# Altium footprint library atmega_pcblib.PcbLib: 24 footprints (part 2 of 2)
Each footprint in its own frame and in the unit in brackets; x right, y up, seen from the top. Pads: shape width x height; smd on the part's side, far side on the other; paste and mask are expansions set on the pad; w line width, h text height; cw(c..) or ccw(c..) is an arc to the next point about the centre after c.
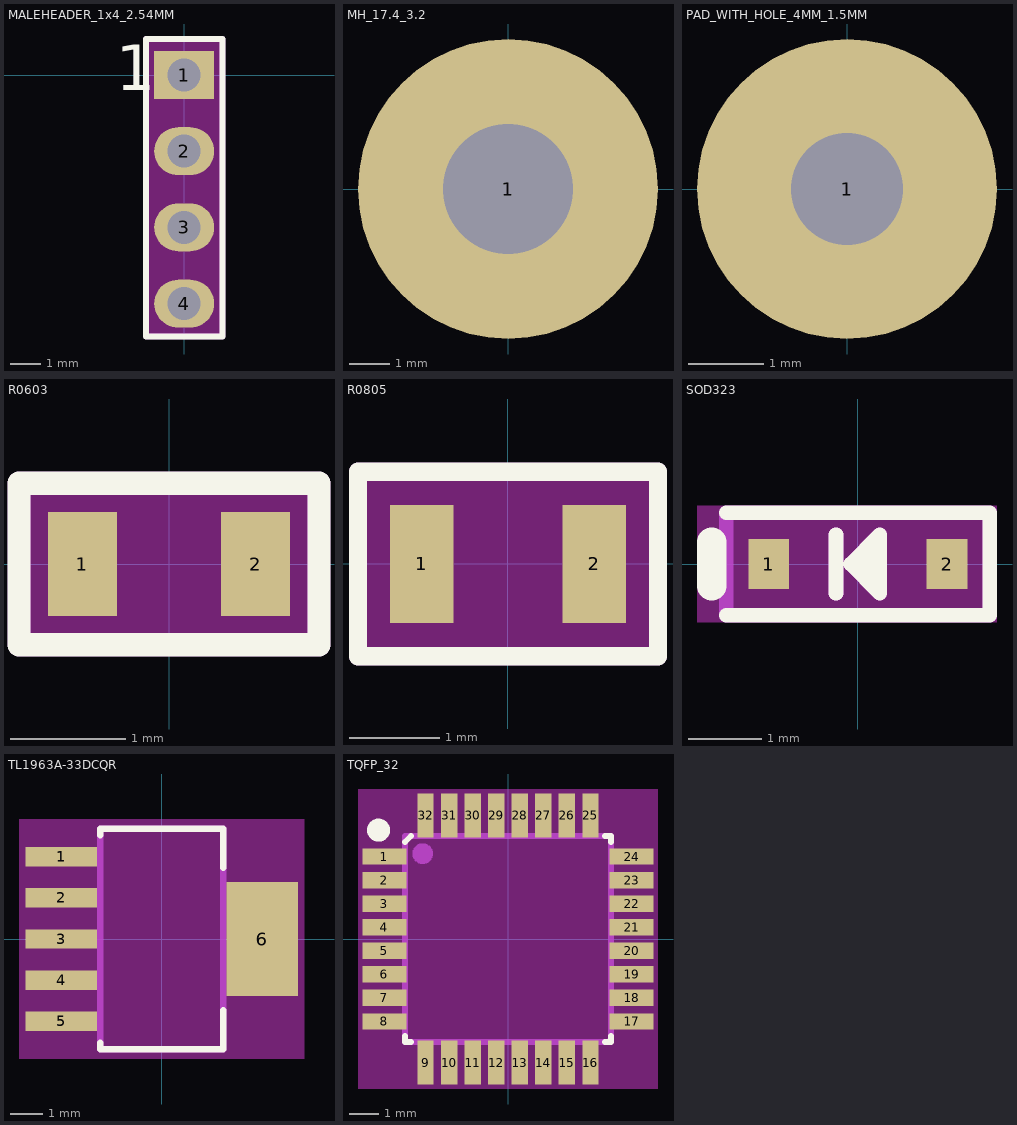
[diagram p1: the footprints below, top view; thin cyan lines are the x and y axes]

## MALEHEADER_1x4_2.54MM [mm]
pads (4):
  rect 2x1.6 hole 1.1: 1(0,0)
  oval 2x1.6 hole 1.1: 2(0,-2.54) 3(0,-5.08) 4(0,-7.62)
Top Overlay:
  lines w0.2: -1.27,-8.724 -1.27,1.2 1.27,1.2 1.27,-8.724 0.635,-8.724 -0.635,-8.724 -1.27,-8.724
  text "1" at -2.286,-0.508 h1.52
Keep-Out Layer:
  rectangle: -1.27,-8.8 1.27,1.2
Mechanical 24:
  circle w0.5: c0,0 r0.359
  lines w0.2: -1.27,-8.724 1.27,-8.724 ; -1.27,-8.7 -1.27,1.2 1.27,1.2 1.27,-8.7
  text ".Designator" at 0.738,-5.746 h1.52
3D body "HDR_1x4_White.stp": height 8.19, standoff -3.31, extent -1.205,-8.66 1.205,1.1

## MH_17.4_3.2 [mm]
pads (1):
  round 7.4 hole 3.2: 1(0,0)

## PAD_WITH_HOLE_4MM_1.5MM [mm]
pads (1):
  round 4 hole 1.5: 1(0,0)

## R0603 [mm]
pads (2):
  rect 0.6x0.9 smd: 1(-0.75,0) 2(0.75,0)
Top Overlay:
  lines w0.2: -1.3,-0.7 -1.3,0.7 1.3,0.7 1.3,-0.7 -1.3,-0.7
Keep-Out Layer:
  rectangle: -1.3,-0.7 1.3,0.7
Mechanical 24:
  lines w0.2: -1.3,-0.7 -1.3,0.7 1.3,0.7 1.3,-0.7 -1.3,-0.7
  text ".Designator" at -0.76,0.973 h1
3D body "R0603.step": height 0.81, standoff 0.01, extent -0.787,-0.42 0.813,0.42

## R0805 [mm]
pads (2):
  rect 0.7x1.3 smd: 1(-0.95,0) 2(0.95,0)
Top Overlay:
  lines w0.2: -1.651,-1.016 1.651,-1.016 1.651,1.016 -1.651,1.016 -1.651,-1.016
Keep-Out Layer:
  rectangle: -1.651,-1.016 1.651,1.016
Mechanical 24:
  lines w0.2: -1.651,-1.016 1.651,-1.016 1.651,1.016 -1.651,1.016 -1.651,-1.016
  text ".Designator" at -1.092,-0.5 h1.02
3D body "User Library-Chip Resistor2.step": height 0.7, standoff 0, extent -1,-0.6 1,0.6

## SOD323 [mil]
pads (2):
  rect 22x27 smd: 1(-48,0) 2(48,0)
Top Overlay:
  lines w7.87: -70.87,-27.56 70.87,-27.56 70.87,27.56 -70.87,27.56 ; -11.81,-15.75 -11.81,15.75 ; 3.94,7.87 11.81,0 ; 11.81,0 3.94,-7.87 3.94,0 11.81,0 ; 11.81,0 11.81,15.75 ; 11.81,15.75 -3.94,0 11.81,-15.75 11.81,15.75
  lines w15.75: -78.74,-11.81 -78.74,11.81
Keep-Out Layer:
  rectangle: -86.61,-31.5 74.8,31.5
Mechanical 24:
  lines w7.87: -11.81,-15.75 -11.81,15.75 ; -70.87,-27.56 70.87,-27.56 70.87,27.56 -70.87,27.56 -70.87,-27.56 ; -3.94,0 11.81,-15.75 11.81,15.75 -3.94,0
  text ".Designator" at -43.31,-65.62 h27.56
3D body "User Library-SOD323.STEP": height 35.43, standoff -3.54, extent -49.21,-24.61 49.21,24.61

## TL1963A-33DCQR [mm]
pads (6):
  rect 2.2x0.6 smd: 1(-3.1,2.54) 2(-3.1,1.27) 3(-3.1,0) 4(-3.1,-1.27) 5(-3.1,-2.54)
  rect 2.2x3.5 smd: 6(3.1,0)
Top Overlay:
  lines w0.2: -1.9,-3.2 -1.9,-3.4 1.9,-3.4 1.9,-2.2 ; -1.9,3.2 -1.9,3.4 1.9,3.4 1.9,2.2
Keep-Out Layer:
  rectangle: -4.4,-3.7 4.4,3.7
Mechanical 24:
  lines w0.2: -1.9,-3.4 -1.9,3.4 1.9,3.4 1.9,-3.4 -1.9,-3.4
  text ".Designator" at -0.438,1.746 h1.52
3D body "User Library-TPS73701DCQ.STEP": height 1.71, standoff -0.09, extent -3.66,-3.275 3.6,3.275

## TQFP_32 [mm]
pads (32):
  rect 1.5x0.55 smd mask+0.06: 1(-4.2,2.8) 2(-4.2,2) 3(-4.2,1.2) 4(-4.2,0.4) 5(-4.2,-0.4) 6(-4.2,-1.2) 7(-4.2,-2) 8(-4.2,-2.8) 17(4.2,-2.8) 18(4.2,-2) 19(4.2,-1.2) 20(4.2,-0.4) 21(4.2,0.4) 22(4.2,1.2) 23(4.2,2) 24(4.2,2.8)
  rect 0.55x1.5 smd mask+0.06: 9(-2.8,-4.2) 10(-2,-4.2) 11(-1.2,-4.2) 12(-0.4,-4.2) 13(0.4,-4.2) 14(1.2,-4.2) 15(2,-4.2) 16(2.8,-4.2) 25(2.8,4.2) 26(2,4.2) 27(1.2,4.2) 28(0.4,4.2) 29(-0.4,4.2) 30(-1.2,4.2) 31(-2,4.2) 32(-2.8,4.2)
Top Overlay:
  circle w0.5: c-4.4,3.7 r0.141
  lines w0.2: -3.5,-3.3 -3.5,-3.5 -3.3,-3.5 ; -3.5,3.3 -3.3,3.5 ; 3.3,-3.5 3.5,-3.5 3.5,-3.3 ; 3.3,3.5 3.5,3.5 3.5,3.3 ; 3.5,-3.3 3.5,-3.4 3.5,-3.3
Keep-Out Layer:
  rectangle: -5.1,-5.1 5.1,5.1
Mechanical 24:
  circle w0.5: c-2.9,2.9 r0.1
  lines w0.2: -3.5,-3.5 -3.5,3.5 3.5,3.5 3.5,-3.4 3.4,-3.5 -3.5,-3.5
  text ".Designator" at -1.146,-0.638 h1.52
3D body "User Library-tqfp32.step": height 1.2, standoff 0, extent -4.6,-4.599 4.599,4.599